# EAGLE library part WL-SMTW_5050 (library we-led)
WL-SMTW SMT Mono-color TOP LED Waterclear Characteristics Low energy consumption High reliability Low current requirement Fast switching No UV/IR radiation Slim Miniature size Flexibility in design Top view LED PLCC 2 white package Compact package outline, ideal for miniature applications Variety of colors Applications Signage and indirect illumination Flat lamp Indicator and backlight in telecommunication Consumer application: dash-board, telephone or A/V equipments Flat backlight for LCDs, switches and symbols Optical indicators Indoor and outdoor displays Scanner Backlight in LCD, cellular phones, switches, keys, displays lluminated advertising, panel Lighting device: indicator, general lighting Camera flash, hand carrier flash Coupling into light guides <https://www.we-online.com/catalog/media/o14908v209%20Family_WL-SMTW%20neu.jpg> Details see: https://www.we-online.com/catalog/en/WL-SMTW/ Created by Ella Wu 2019-12-17 2019(C) Wurth Elektronik
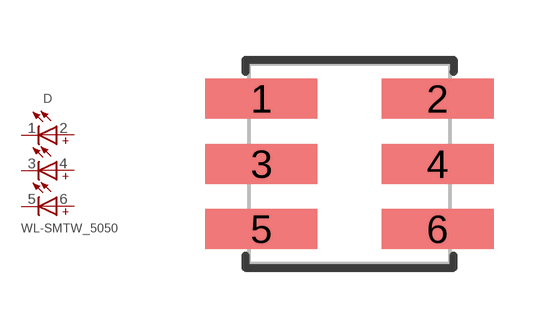
[diagram p2: symbol with the pads of WL-SMTW_5050; footprint WL-SMTW_5050]

Designator prefix D

## WL-SMTW_5050_150505BS73300, WL-SMTW_5050_150505GS73300, WL-SMTW_5050_150505RS73300, WL-SMTW_5050_150505YS73300  [WL-SMTW_5050]
1  1  pas
2  2  pas
3  3  pas
4  4  pas
5  5  pas
6  6  pas

## Footprint WL-SMTW_5050 (pad centres in mm)
WL-SMTW SMT Mono-color TOP LED Waterclear Size : 5050
smd 2.8 x 1: 1 -2.2,1.63; 2 2.2,1.63; 3 -2.2,0; 4 2.2,0; 5 -2.2,-1.63; 6 2.2,-1.63